# Altium integrated library ICL7107CPLZ.IntLib: 1 symbol
Pins are listed as number, name and electrical type; pins without a type are passive.

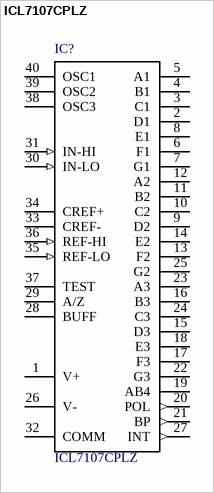
[diagram p0: symbol ICL7107CPLZ]

## ICL7107CPLZ
designator IC?
ICL7107 Series 3 1/2 Digit LCD/LED Display Analog to Digital Converter - PDIP-40; MF: Renesas Electronics; Package: DIP-40 Intersil; Price: None; MP: ICL7107CPLZ; Availability: Unavailable; SnapEDA_Link: https://www.snapeda.com/parts/ICL7107CPLZ/Renesas%20Electronics%20America%20Inc./view-part/45306/?ref=snap; Value: *
footprint *DIL40
pins: 1 V+ (power), 2 D1 (hiz), 3 C1 (hiz), 4 B1 (hiz), 5 A1 (hiz), 6 F1 (hiz), 7 G1 (hiz), 8 E1 (hiz), 9 D2 (hiz), 10 C2 (hiz), 11 B2 (hiz), 12 A2 (hiz), 13 F2 (hiz), 14 E2 (hiz), 15 D3 (hiz), 16 B3 (hiz), 17 F3 (hiz), 18 E3 (hiz), 19 AB4 (hiz), 20 POL (out), 21 BP (out), 22 G3 (hiz), 23 A3 (hiz), 24 C3 (hiz), 25 G2 (hiz), 26 V- (power), 27 INT (out), 28 BUFF, 29 A/Z, 30 IN-LO (in), 31 IN-HI (in), 32 COMM (power), 33 CREF-, 34 CREF+, 35 REF-LO (in), 36 REF-HI (in), 37 TEST, 38 OSC3, 39 OSC2, 40 OSC1